# Altium footprint library Sumobot2kl20.PcbLib: 17 footprints (part 1 of 2)
Each footprint in its own frame and in the unit in brackets; x right, y up, seen from the top. Pads: shape width x height; smd on the part's side, far side on the other; paste and mask are expansions set on the pad; w line width, h text height; cw(c..) or ccw(c..) is an arc to the next point about the centre after c.
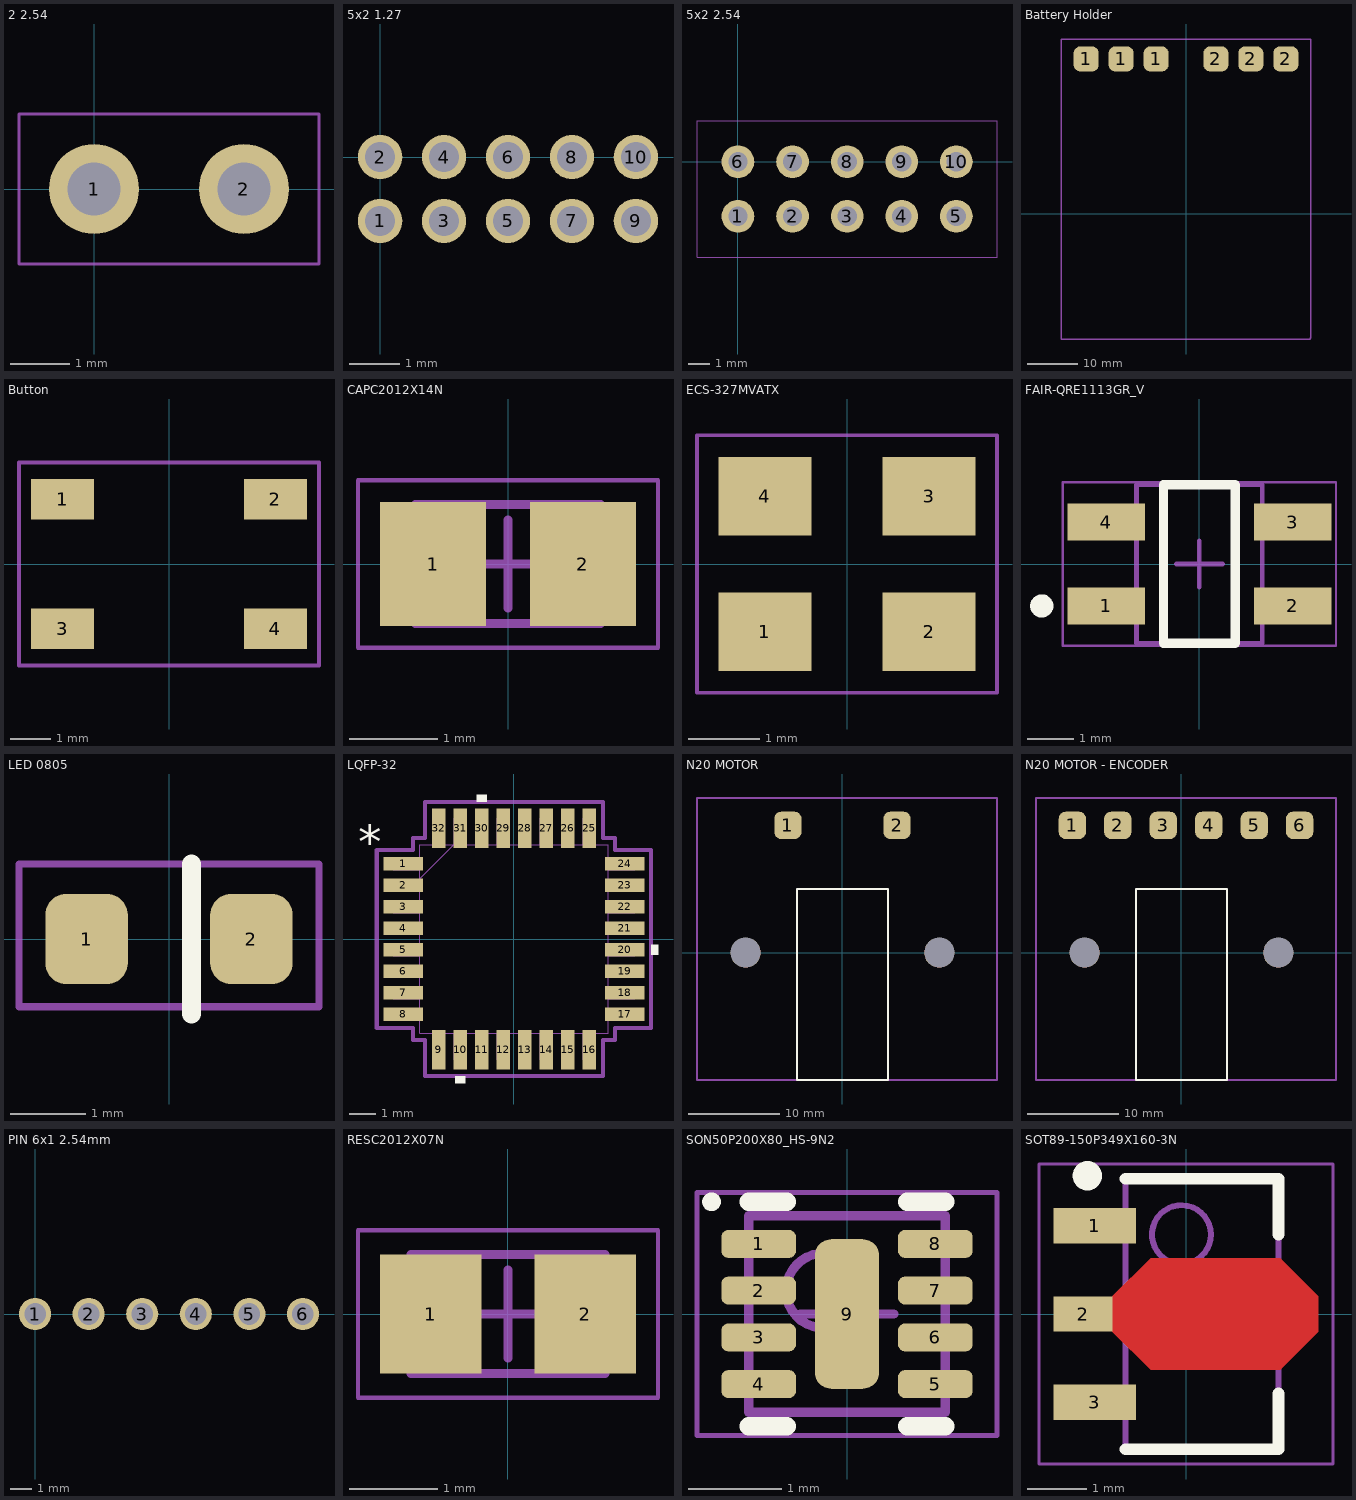
[diagram p0: the footprints below, top view; thin cyan lines are the x and y axes]

## 2 2.54 [mil]
pads (2):
  round 60 hole 35.43: 1(0,0) 2(100,0)
Mechanical 15:
  lines w1.97: -50,-50 -50,50 150,50 150,-50 -50,-50
3D body "PREC002SAAN-RC.STEP": height 329.92, standoff -120.08, extent -50,-50 150,50

## 5x2 1.27 [mm]
pads (10):
  round 0.88 hole 0.6: 1(0,-1.27) 2(0,0) 3(1.27,-1.27) 4(1.27,0) 5(2.54,-1.27) 6(2.54,0) 7(3.81,-1.27) 8(3.81,0) 9(5.08,-1.27) 10(5.08,0)
3D body "JTAG.step": height 5.4, standoff -2.1, extent -3.825,-3.17 8.825,1.96

## 5x2 2.54 [mil]
pads (10):
  round 60 hole 35.43: 1(0,-100) 2(100,-100) 3(200,-100) 4(300,-100) 5(400,-100) 6(0,0) 7(100,0) 8(200,0) 9(300,0) 10(400,0)
Mechanical 15:
  lines w1.97: -75,-175 -75,75 474.41,75 474.41,-19.78 474.41,-175 -75,-175
3D body "PH2-10-UA.STEP": height 352.36, standoff -102.36, extent -51.18,-148.62 448.82,48.23

## Battery Holder [mm]
pads (6):
  rrect50% 5x5 smd: 1(-20,31) 1(-13,31) 1(-6,31) 2(6,31) 2(13,31) 2(20,31)
Mechanical 15:
  lines w0.254: -25,-25.104 -25,-24.896 -25,35 25,35 25,-24.896 24.792,-25.104 -25,-25.104

## Button [mm]
pads (4):
  rect 1.55x1 smd: 1(-2.625,1.6) 2(2.625,1.6) 3(-2.625,-1.6) 4(2.625,-1.6)
Mechanical 15:
  lines w0.1: -3.7,-2.5 3.7,-2.5 3.7,2.5 -3.7,2.5 -3.7,-2.5
3D body "Tact Switch SMD 4.5x4.5mm.stp": height 3.8, standoff 0, extent -3.75,-2.25 3.75,2.25

## CAPC2012X14N [mm] "Chip Capacitor, 2-Leads, Body 2.00x1.25mm, IPC Medium Density"
height 1.35
pads (2):
  rect 1.2x1.4 smd: 1(-0.85,0) 2(0.85,0)
Mechanical 13:
  lines w0.1: -1.05,-0.675 1.05,-0.675 1.05,0.675 -1.05,0.675 -1.05,-0.675
Mechanical 15:
  lines w0.05: -1.7,-0.95 1.7,-0.95 1.7,0.95 -1.7,0.95 -1.7,-0.95
  lines w0.1: -0.5,0 0.5,0 ; 0,-0.5 0,0.5
3D body "CAPC2012X14N.step": height 1.35, standoff 0, extent -1.05,-0.675 1.05,0.675

## ECS-327MVATX [mm] "3.2 x 2.5 Package"
pads (4):
  rect 1.3x1.1 smd: 1(-1.15,-0.95) 2(1.15,-0.95) 3(1.15,0.95) 4(-1.15,0.95)
Mechanical 15:
  lines w0.05: -2.1,-1.8 1.8,-1.8 1.9,-1.8 2.1,-1.8 2.1,1.8 -2.1,1.8 -2.1,-1.8
3D body: height 1.17, standoff -1.37, extent 3.2,-0.1 3.2,-0.1
3D body: height 1.2, standoff 0, extent -1.6,-1.3 1.5,1.3

## FAIR-QRE1113GR_V [mm] "SMD, 4-Leads, Body 3.4x2.7mm, Pitch 1.8mm"
height 1.832
pads (4):
  rect 1.66x0.79 smd: 1(-2,-0.9) 2(2,-0.9) 3(2,0.9) 4(-2,0.9)
Top Overlay:
  circle w0.25: c-3.38,-0.9 r0.125
  lines w0.2: -0.77,-1.7 -0.77,1.7 0.77,1.7 0.77,-1.7 -0.77,-1.7
Mechanical 13:
  lines w0.1: -1.35,-1.7 -1.35,1.7 1.35,1.7 1.35,-1.7 -1.35,-1.7
Mechanical 15:
  lines w0.05: -2.93,-1.75 2.93,-1.75 2.93,1.75 -2.93,1.75 -2.93,-1.75
  lines w0.1: -0.5,0 0.5,0 ; 0,-0.5 0,0.5
3D body: height 1.83, standoff 0, extent -1.35,-1.7 1.35,1.7

## LED 0805 [mm]
pads (2):
  rrect50% 1.1x1.2 smd: 1(-1.1,0) 2(1.1,0)
Top Overlay:
  lines w0.254: 0.3,-1 0.3,1 0.3,-0.6
Mechanical 15:
  lines w0.1: -2,-0.9 -2,0.2 -2,1 2,1 2,-0.9 -2,-0.9
3D body "150080AS75000_Download_STP_WL-SMCW-0805_rev1.stp": height 0.7, standoff 0, extent -1,-0.625 1,0.625

## LQFP-32 [mil]
pads (32):
  rect 58x20 smd paste+0 mask+0: 1(-162,110.24) 2(-162,78.74) 3(-162,47.24) 4(-162,15.75) 5(-162,-15.75) 6(-162,-47.24) 7(-162,-78.74) 8(-162,-110.24) 17(162,-110.24) 18(162,-78.74) 19(162,-47.24) 20(162,-15.75) 21(162,15.75) 22(162,47.24) 23(162,78.74) 24(162,110.24)
  rect 20x58 smd paste+0 mask+0: 9(-110.24,-162) 10(-78.74,-162) 11(-47.24,-162) 12(-15.75,-162) 13(15.75,-162) 14(47.24,-162) 15(78.74,-162) 16(110.24,-162) 25(110.24,162) 26(78.74,162) 27(47.24,162) 28(15.75,162) 29(-15.75,162) 30(-47.24,162) 31(-78.74,162) 32(-110.24,162)
Top Overlay:
  region: -39.74,201 -54.74,201 -54.74,211 -39.74,211
  region: 201,-8.25 211,-8.25 211,-23.25 201,-23.25
  region: -71.24,-201 -86.24,-201 -86.24,-211 -71.24,-211
  text "*" at -228.5,115.98 h50
Mechanical 13:
  lines w1: -138,88 -88,138 ; -177,-119.24 -138,-119.24 -138,-101.24 -177,-101.24 -177,-119.24 ; -177,-87.74 -138,-87.74 -138,-69.74 -177,-69.74 -177,-87.74 ; -177,-56.24 -138,-56.24 -138,-38.24 -177,-38.24 -177,-56.24 ; -177,-24.75 -138,-24.75 -138,-6.75 -177,-6.75 -177,-24.75 ; -177,6.75 -138,6.75 -138,24.75 -177,24.75 -177,6.75 ; -177,38.24 -138,38.24 -138,56.24 -177,56.24 -177,38.24 ; -177,69.74 -138,69.74 -138,87.74 -177,87.74 -177,69.74 ; -177,101.24 -138,101.24 -138,119.24 -177,119.24 -177,101.24 ; -138,-138 -138,138 138,138 138,-138 -138,-138 ; -119.24,-177 -101.24,-177 -101.24,-138 -119.24,-138 -119.24,-177 ; -119.24,138 -119.24,177 -101.24,177 -101.24,138 -119.24,138 ; -87.74,-177 -69.74,-177 -69.74,-138 -87.74,-138 -87.74,-177 ; -87.74,138 -87.74,177 -69.74,177 -69.74,138 -87.74,138 ; -56.24,-177 -38.24,-177 -38.24,-138 -56.24,-138 -56.24,-177 ; -56.24,138 -56.24,177 -38.24,177 -38.24,138 -56.24,138 ; -24.75,-177 -6.75,-177 -6.75,-138 -24.75,-138 -24.75,-177 ; -24.75,138 -24.75,177 -6.75,177 -6.75,138 -24.75,138 ; 6.75,-177 24.75,-177 24.75,-138 6.75,-138 6.75,-177 ; 6.75,138 6.75,177 24.75,177 24.75,138 6.75,138 ; 38.24,-177 56.24,-177 56.24,-138 38.24,-138 38.24,-177 ; 38.24,138 38.24,177 56.24,177 56.24,138 38.24,138 ; 69.74,-177 87.74,-177 87.74,-138 69.74,-138 69.74,-177 ; 69.74,138 69.74,177 87.74,177 87.74,138 69.74,138 ; 101.24,-177 119.24,-177 119.24,-138 101.24,-138 101.24,-177 ; 101.24,138 101.24,177 119.24,177 119.24,138 101.24,138 ; 138,-119.24 177,-119.24 177,-101.24 138,-101.24 138,-119.24 ; 138,-87.74 177,-87.74 177,-69.74 138,-69.74 138,-87.74 ; 138,-56.24 177,-56.24 177,-38.24 138,-38.24 138,-56.24 ; 138,-24.75 177,-24.75 177,-6.75 138,-6.75 138,-24.75 ; 138,6.75 177,6.75 177,24.75 138,24.75 138,6.75 ; 138,38.24 177,38.24 177,56.24 138,56.24 138,38.24 ; 138,69.74 177,69.74 177,87.74 138,87.74 138,69.74 ; 138,101.24 177,101.24 177,119.24 138,119.24 138,101.24
  text "*" at -135.5,100.98 h50
Mechanical 15:
  lines w6: -201,-130.24 -201,130.24 -148,130.24 -148,148 -130.24,148 -130.24,201 130.24,201 130.24,148 148,148 148,130.24 201,130.24 201,-130.24 148,-130.24 148,-148 130.24,-148 130.24,-201 -130.24,-201 -130.24,-148 -148,-148 -148,-130.24 -201,-130.24
3D body: height 10, standoff 0, extent 0,0 10,10
3D body "STM8S003K3T6CTR--3DModel-STEP-56544.STEP": height 67.91, standoff 4.92, extent -177.16,-181.1 177.16,173.23

## N20 MOTOR [mm]
pads (4):
  rrect50% 3x3 smd: 1(-6,14) 2(6,14)
  round 3.3 hole 3.3: ""(-10.65,0) ""(10.65,0)
Top Overlay:
  lines w0.254: -5,-14 -5,7 5,7 5,-14 -5,-14
Mechanical 15:
  lines w0.254: -16,-14 17,-14 17,17 -16,17 -16,-14
3D body "ss.step": height 11.55, standoff -0.09, extent -15,-6.557 14.086,6.557

## N20 MOTOR - ENCODER [mm]
pads (8):
  rrect50% 3x3 smd: 1(-12,14) 2(-7,14) 3(-2,14) 4(3,14) 5(8,14) 6(13,14)
  round 3.3 hole 3.3: ""(-10.65,0) ""(10.65,0)
Top Overlay:
  lines w0.254: -5,-14 5,-14 5,7 -5,7 -5,-14
Mechanical 15:
  lines w0.254: -16,-14 -16,17 17,17 17,-14 -16,-14
3D body "ss.step": height 11.55, standoff -0.09, extent -15,-6.557 14.086,6.557

## PIN 6x1 2.54mm [mil]
pads (6):
  round 60 hole 40.16: 1(0,0) 2(100,0) 3(200,0) 4(300,0) 5(400,0) 6(500,0)
3D body "PH1RA-06-UA.STEP": height 250.79, standoff -110.24, extent -52.11,-287.4 548.17,47.24

## RESC2012X07N [mm] "Chip Resistor, 2-Leads, Body 2.00x1.25mm, IPC Medium Density"
height 0.7
pads (2):
  rect 1.15x1.35 smd: 1(-0.875,0) 2(0.875,0)
Mechanical 13:
  lines w0.1: -1.1,-0.675 -1.1,0.675 1.1,0.675 1.1,-0.675 -1.1,-0.675
Mechanical 15:
  lines w0.05: -1.7,-0.95 -1.7,0.95 1.7,0.95 1.7,-0.95 -1.7,-0.95
  lines w0.1: -0.5,0 0.5,0 ; 0,-0.5 0,0.5
3D body "RESC2012X07N.step": height 0.7, standoff 0, extent -1.1,-0.675 1.1,0.675

## SON50P200X80_HS-9N2 [mm] "SON, 8-Leads, Body 2.00x2.00mm, Pitch 0.50mm, Thermal Pad 1.60x0.69mm, IPC Medium Density"
height 0.8
pads (9):
  rrect50% 0.8x0.3 smd: 1(-0.945,0.75) 2(-0.945,0.25) 3(-0.945,-0.25) 4(-0.945,-0.75) 5(0.945,-0.75) 6(0.945,-0.25) 7(0.945,0.25) 8(0.945,0.75)
  rrect50% 0.69x1.6 smd: 9(0,0)
Top Overlay:
  circle w0.1: c-1.45,1.2 r0.05
  lines w0.2: -1.05,-1.2 -0.645,-1.2 ; -1.05,1.2 -0.645,1.2 ; 0.645,-1.2 1.05,-1.2 ; 0.645,1.2 1.05,1.2
Mechanical 13:
  circle w0.1: c-0.25,0.25 r0.4
  lines w0.1: -1.05,-1.05 1.05,-1.05 1.05,1.05 -1.05,1.05 -1.05,-1.05
Mechanical 15:
  lines w0.05: -1.605,-1.3 1.605,-1.3 1.605,1.3 -1.605,1.3 -1.605,-1.3
  lines w0.1: -0.5,0 0.5,0 ; 0,-0.5 0,0.5
3D body "SON50P200X80_HS-9N.step": height 0.8, standoff 0, extent -1.051,-1.05 1.051,1.05

## SOT89-150P349X160-3N [mm] "SOT89, 3-Leads, Body 4.50x2.45mm, Pitch 1.50mm, Lead Span 3.5mm, IPC Medium Density"
height 1.6
pads (3):
  rect 1.4x0.6 smd: 1(-1.55,1.5) 3(-1.55,-1.5)
  rect 1x0.6 smd: 2(-1.75,0)
Top Layer:
  region: -1.25,0.3 -0.6,0.95 1.6,0.95 2.25,0.3 2.25,-0.3 1.6,-0.95 -0.6,-0.95 -1.25,-0.3
Top Overlay:
  circle w0.25: c-1.677,2.35 r0.125
  lines w0.2: -1.027,-2.3 1.573,-2.3 1.573,-1.35 ; -1.027,2.3 1.573,2.3 1.573,1.35
Mechanical 13:
  circle w0.1: c-0.078,1.35 r0.5
  lines w0.1: -1.027,-2.3 -1.027,2.3 1.573,2.3 1.573,-2.3 -1.027,-2.3
Mechanical 15:
  lines w0.05: -2.5,-2.55 -2.5,2.55 2.5,2.55 2.5,-2.55 -2.5,-2.55
  lines w0.1: -0.228,0 0.773,0 ; 0.273,-0.5 0.273,0.5
3D body "SOT89-150P349X160-3N.step": height 1.6, standoff 0, extent -2.2,-2.297 2.1,2.297